# Altium schematic symbol library NCP718ASN330T1G.SchLib: 1 symbol
Pins are listed as number, name and electrical type; pins without a type are passive.

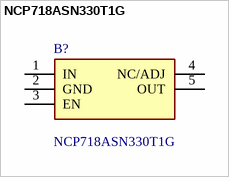
[diagram p0: symbol NCP718ASN330T1G]

## NCP718ASN330T1G
designator B?
UltraLow Quiescent Current typ. 4 A over Temperature; Operating Input Voltage Range 2.5 V to 24 V; Adjustable and Fixed Version Available; High PSRR 60dB at 1kHz; Noise typ. 36 VRMS from 100 Hz to 100 kHz; Stable with 1 F output capacitor; Softstart to Reduce Inrush Current and Overshoots; SOA Limiting for High Vin / High Iout  Static and Dynamic; Manufacturer_Name: onsemi; Geometry.Height: 1mm; Farnell Part Number: *; Farnell Price/Stock: *; Manufacturer_Part_Number: NCP718ASN330T1G; Datasheet Link: https://www.onsemi.com/pub/Collateral/NCP718-D.PDF
footprint SOT95P280X100-5N
pins: 1 IN, 2 GND, 3 EN, 4 NC/ADJ, 5 OUT